# EAGLE library part MEM8 (library dec-con)
.156" Edge connector and outline for straight-8 memory cards
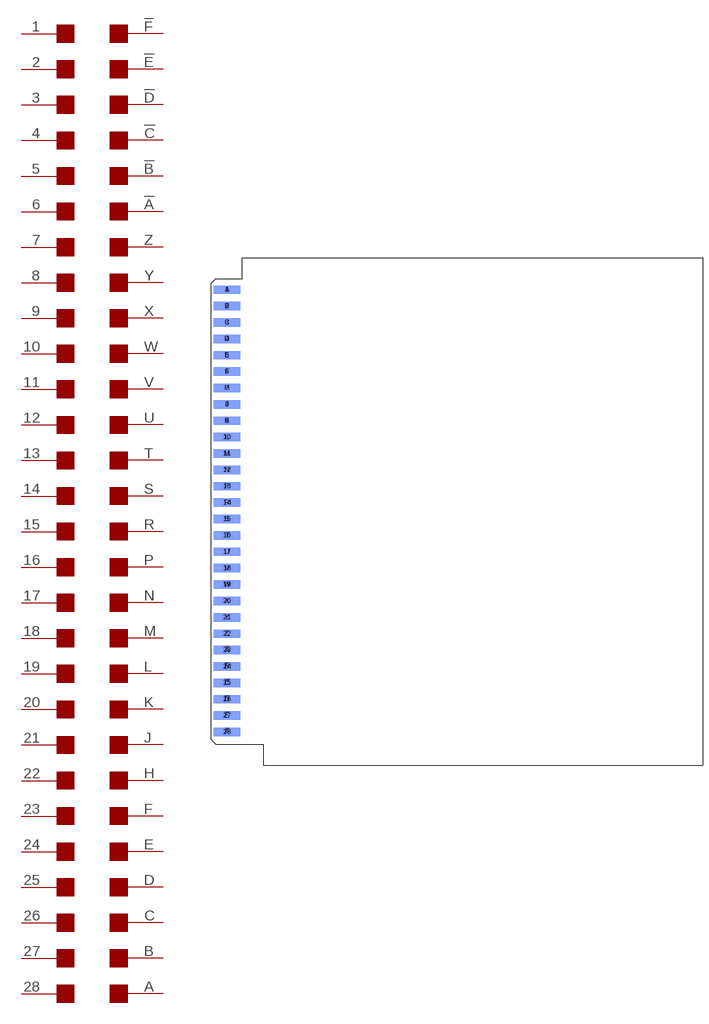
[diagram p100: symbol with the pads of MEM8; footprint MEM8]

Designator prefix EDGE; gates 1=EDGE-LEFT 2=EDGE-LEFT 3=EDGE-LEFT 4=EDGE-LEFT 5=EDGE-LEFT 6=EDGE-LEFT 7=EDGE-LEFT 8=EDGE-LEFT 9=EDGE-LEFT 10=EDGE-LEFT 11=EDGE-LEFT 12=EDGE-LEFT 13=EDGE-LEFT 14=EDGE-LEFT 15=EDGE-LEFT 16=EDGE-LEFT 17=EDGE-LEFT 18=EDGE-LEFT 19=EDGE-LEFT 20=EDGE-LEFT 21=EDGE-LEFT 22=EDGE-LEFT 23=EDGE-LEFT 24=EDGE-LEFT 25=EDGE-LEFT 26=EDGE-LEFT 27=EDGE-LEFT 28=EDGE-LEFT A=EDGE-RIGHT B=EDGE-RIGHT C=EDGE-RIGHT D=EDGE-RIGHT E=EDGE-RIGHT F=EDGE-RIGHT H=EDGE-RIGHT J=EDGE-RIGHT K=EDGE-RIGHT L=EDGE-RIGHT M=EDGE-RIGHT N=EDGE-RIGHT P=EDGE-RIGHT R=EDGE-RIGHT S=EDGE-RIGHT T=EDGE-RIGHT U=EDGE-RIGHT V=EDGE-RIGHT W=EDGE-RIGHT X=EDGE-RIGHT Y=EDGE-RIGHT Z=EDGE-RIGHT !A=EDGE-RIGHT !B=EDGE-RIGHT !C=EDGE-RIGHT !D=EDGE-RIGHT !E=EDGE-RIGHT !F=EDGE-RIGHT

## MEM8  [MEM8]
1  1:1
2  2:1
3  3:1
4  4:1
5  5:1
6  6:1
7  7:1
8  8:1
9  9:1
10  10:1
11  11:1
12  12:1
13  13:1
14  14:1
15  15:1
16  16:1
17  17:1
18  18:1
19  19:1
20  20:1
21  21:1
22  22:1
23  23:1
24  24:1
25  25:1
26  26:1
27  27:1
28  28:1
!A  !A:1
!B  !B:1
!C  !C:1
!D  !D:1
!E  !E:1
!F  !F:1
A  A:1
B  B:1
C  C:1
D  D:1
E  E:1
F  F:1
H  H:1
J  J:1
K  K:1
L  L:1
M  M:1
N  N:1
P  P:1
R  R:1
S  S:1
T  T:1
U  U:1
V  V:1
W  W:1
X  X:1
Y  Y:1
Z  Z:1

## Footprint MEM8 (pad centres in mm)
.156" Edge connector and outline for straight-8 memory cards
smd 6.35 x 2.032: 1 3.962,115.418; 2 3.962,111.442; 3 3.962,107.467; 4 3.962,103.492; 5 3.962,99.517; 6 3.962,95.542; 7 3.962,91.567; 8 3.962,87.592; 9 3.962,83.617; 10 3.962,79.642; 11 3.962,75.667; 12 3.962,71.692; 13 3.962,67.716; 14 3.962,63.741; 15 3.962,59.766; 16 3.962,55.791; 17 3.962,51.816; 18 3.962,47.841; 19 3.962,43.866; 20 3.962,39.891; 21 3.962,35.916; 22 3.962,31.941; 23 3.962,27.965; 24 3.962,23.99; 25 3.962,20.015; 26 3.962,16.04; 27 3.962,12.065; 28 3.962,8.09
smd 6.35 x 2.032 bottom: !A 3.962,27.965; !B 3.962,23.99; !C 3.962,20.015; !D 3.962,16.04; !E 3.962,12.065; !F 3.962,8.09; A 3.962,115.418; B 3.962,111.442; C 3.962,107.467; D 3.962,103.492; E 3.962,99.517; F 3.962,95.542; H 3.962,91.567; J 3.962,87.592; K 3.962,83.617; L 3.962,79.642; M 3.962,75.667; N 3.962,71.692; P 3.962,67.716; R 3.962,63.741; S 3.962,59.766; T 3.962,55.791; U 3.962,51.816; V 3.962,47.841; W 3.962,43.866; X 3.962,39.891; Y 3.962,35.916; Z 3.962,31.941